# Altium footprint library PcbLib_Others.PcbLib: 31 footprints (part 1 of 2)
Each footprint in its own frame and in the unit in brackets; x right, y up, seen from the top. Pads: shape width x height; smd on the part's side, far side on the other; paste and mask are expansions set on the pad; w line width, h text height; cw(c..) or ccw(c..) is an arc to the next point about the centre after c.
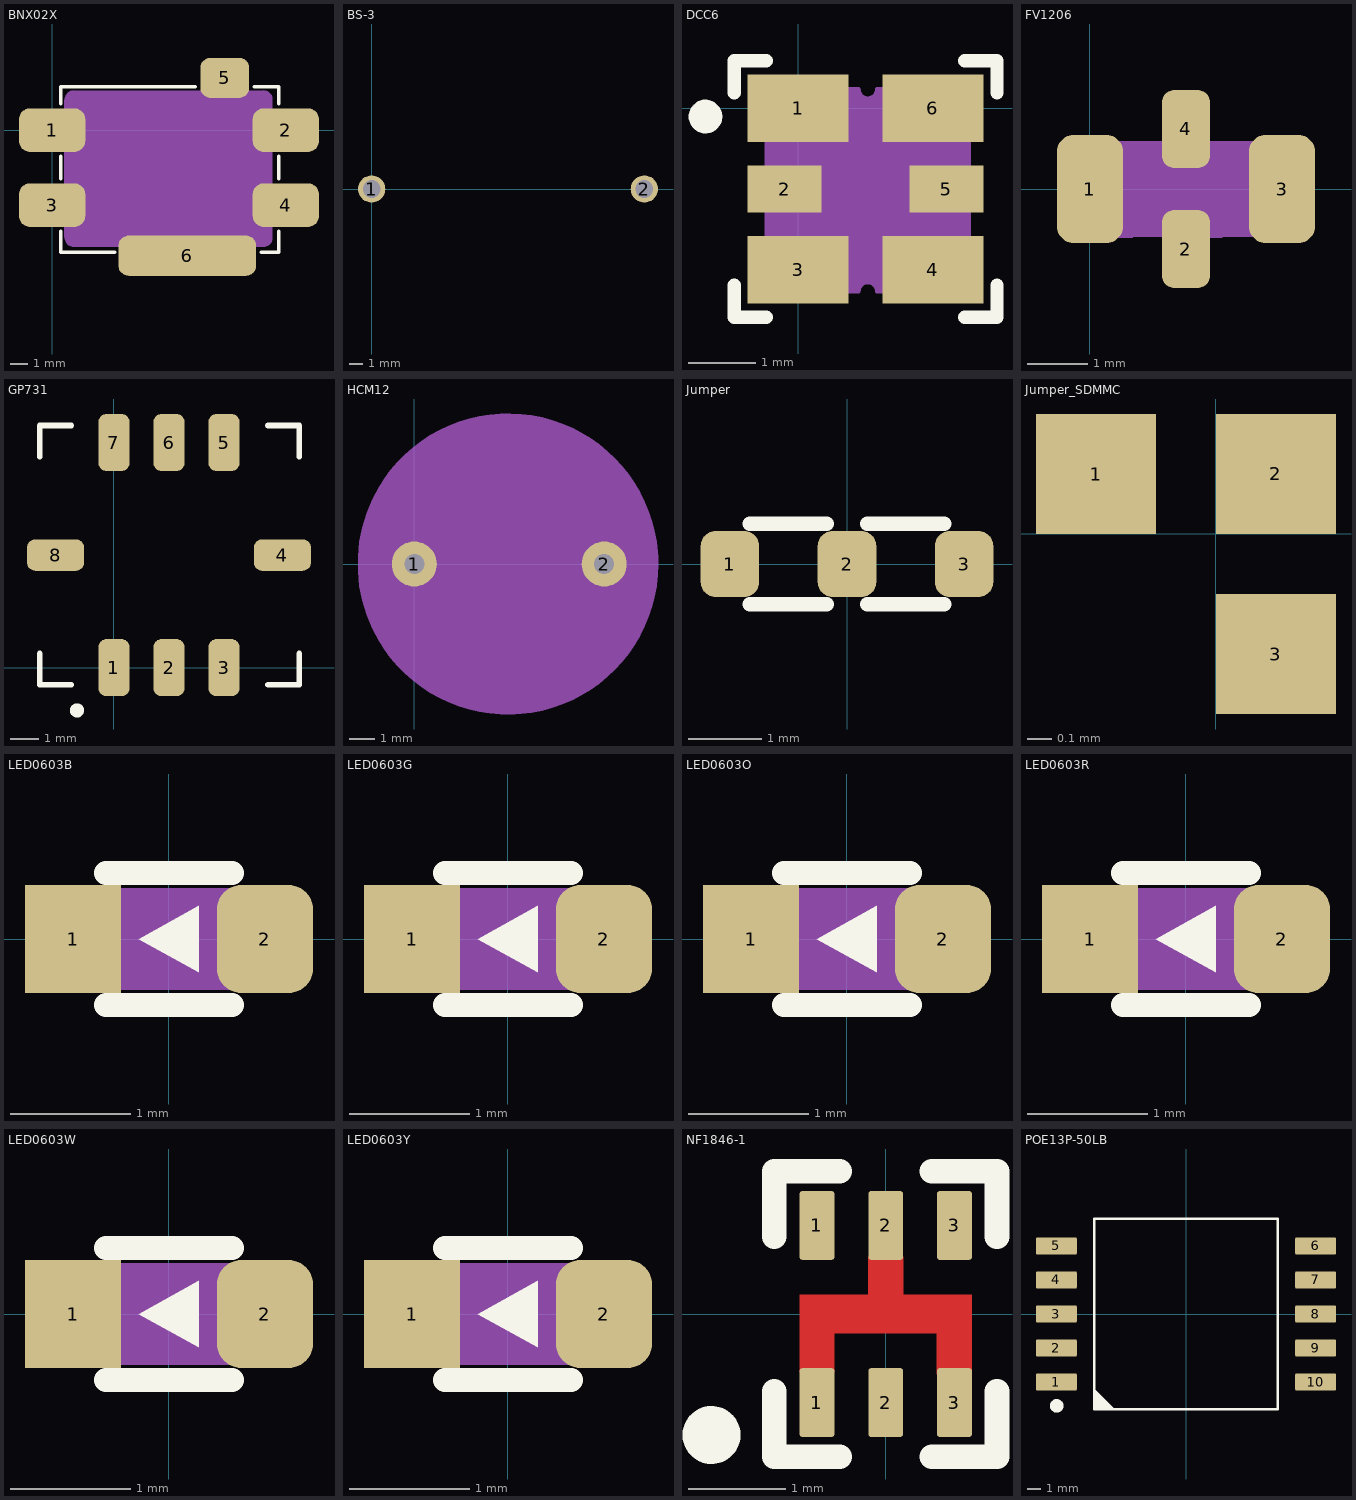
[diagram p0: the footprints below, top view; thin cyan lines are the x and y axes]

## BNX02X [mm]
pads (6):
  rrect50% 3.8x2.5 smd: 1(0,0) 2(13.4,0) 3(0,-4.3) 4(13.4,-4.3)
  rrect50% 2.8x2.3 smd: 5(9.9,3)
  rrect50% 7.9x2.3 smd: 6(7.75,-7.2)
Top Overlay:
  lines w0.2: 0.5,-5.8 0.5,-7 3.6,-7 ; 0.5,-2.8 0.5,-1.5 ; 0.5,1.5 0.5,2.5 8.2,2.5 ; 11.6,2.5 13,2.5 13,1.5 ; 12,-7 13,-7 13,-5.8 ; 13,-2.8 13,-1.5
Mechanical 3:
  drawing of 310 lines, arcs and shapes, not listed
Mechanical 4:
  rectangle: 0.632,-4.954 0.732,-3.654
  rectangle: 0.632,-0.754 0.732,0.546
  rectangle: 8.682,2.246 11.182,2.346
  rectangle: 12.632,-0.754 12.732,0.546
  rectangle: 12.632,-4.954 12.732,-3.654
  rectangle: 4.182,-6.754 11.182,-6.654
  region: 0.732,-6.154 0.732,1.746 0.732,1.845 0.808,2.029 0.949,2.17 1.132,2.246 1.232,2.246 12.132,2.246 12.231,2.246 12.415,2.17 12.556,2.029 12.632,1.845 12.632,1.746 12.632,-6.154 12.632,-6.253 12.556,-6.437 12.415,-6.578 12.231,-6.654 12.132,-6.654 1.232,-6.654 1.132,-6.654 0.949,-6.578 0.808,-6.437 0.732,-6.253
3D body "BNX02X.STEP": height 3.1, standoff 0, extent 0.65,-6.75 12.75,2.35

## BS-3 [mm]
pads (2):
  round 2 hole 1.3: 1(0,0) 2(20,0)
3D body "CR 2032.STEP": height 7.06, standoff -3.49, extent -3.325,-11.375 25.375,11.375

## DCC6 [mm]
height 1.15
pads (6):
  rect 1.5x1 smd: 1(0,0) 3(0,-2.4) 4(2,-2.4) 6(2,0)
  rect 1.1x0.7 smd: 2(-0.2,-1.2) 5(2.2,-1.2)
Top Overlay:
  circle w0.25: c-1.375,-0.125 r0.125
  lines w0.2: -0.95,-2.625 -0.95,-3.1 -0.475,-3.1 ; -0.95,0.225 -0.95,0.7 -0.475,0.7 ; 2.475,-3.1 2.95,-3.1 2.95,-2.625 ; 2.475,0.7 2.95,0.7 2.95,0.225
Mechanical 3:
  lines w0.06: -0.466,-2.583 cw(c-0.466,-2.719) -0.33,-2.719 0.898,-2.719 cw(c1.034,-2.719) 1.17,-2.719 2.398,-2.719 cw(c2.534,-2.719) 2.534,-2.583 2.534,-1.356 cw(c2.534,-1.219) 2.534,-1.083 2.534,0.144 cw(c2.534,0.281) 2.398,0.281 1.17,0.281 cw(c1.034,0.281) 0.898,0.281 -0.33,0.281 cw(c-0.466,0.281) -0.466,0.144 -0.466,-1.083 cw(c-0.466,-1.219) -0.466,-1.356 -0.466,-2.583 ; -0.002,-2.013 ccw(c0.298,-2.013) 0.298,-2.313 1.768,-2.313 ccw(c1.768,-2.013) 2.068,-2.013 2.068,-0.563 ccw(c1.768,-0.563) 1.768,-0.263 0.298,-0.263 ccw(c0.298,-0.563) -0.002,-0.563 -0.002,-2.013 ; 0.217,-1.852 ccw(c0.457,-1.852) 0.457,-2.092 1.632,-2.092 ccw(c1.632,-1.852) 1.872,-1.852 1.872,-0.691 ccw(c1.632,-0.691) 1.632,-0.451 0.457,-0.451 ccw(c0.457,-0.691) 0.217,-0.691 0.217,-1.852
Mechanical 4:
  region: -0.45,-2.575 -0.45,-1.375 -0.425,-1.375 -0.35,-1.3 -0.35,-1.175 -0.425,-1.1 -0.475,-1.1 -0.475,0.15 -0.4,0.15 -0.4,0.175 -0.325,0.25 -0.325,0.275 0.9,0.275 0.925,0.25 0.925,0.2 0.975,0.15 1.1,0.15 1.175,0.225 1.175,0.275 2.4,0.275 2.425,0.25 2.425,0.2 2.475,0.15 2.525,0.15 2.525,-1.075 2.5,-1.1 2.45,-1.1 2.45,-1.125 2.4,-1.175 2.4,-1.275 2.475,-1.35 2.525,-1.35 2.525,-2.575 2.5,-2.6 2.475,-2.6 2.4,-2.675 2.4,-2.725 1.175,-2.725 1.15,-2.7 1.15,-2.65 1.1,-2.6 0.95,-2.6 0.95,-2.625 0.9,-2.675 0.9,-2.725 -0.3,-2.725
3D body "DCC6.STEP": height 1.16, standoff -0.01, extent -0.485,-2.7 2.535,0.3

## FV1206 [mm]
height 0.95
pads (4):
  rrect50% 1.1x1.8 smd: 1(0,0) 3(3.2,0)
  rrect50% 0.8x1.3 smd: 2(1.6,-1) 4(1.6,1)
Mechanical 3:
  lines w0.013: 0.603,-0.79 0.604,-0.79 1.4,-0.79 ; 0.603,0.79 0.604,0.79 1.4,0.79 ; 0.64,-0.79 0.64,-0.8 ; 0.64,0.79 0.64,0.8 ; 0.68,-0.79 0.68,-0.8 ; 0.68,0.79 0.68,0.8 ; 0.7,-0.79 0.7,-0.8 ; 0.7,0.79 0.7,0.8 ; 0.71,-0.79 0.71,-0.8 0.7,-0.8 ; 0.71,0.79 0.71,0.8 0.7,0.8 ; 2.2,-0.79 2.996,-0.79 2.997,-0.79 ; 2.2,0.79 2.996,0.79 2.997,0.79 ; 2.89,-0.79 2.89,-0.8 2.9,-0.8 ; 2.89,0.79 2.89,0.8 2.9,0.8 ; 2.9,-0.79 2.9,-0.8 ; 2.9,0.79 2.9,0.8 ; 2.92,-0.79 2.92,-0.8 ; 2.92,0.79 2.92,0.8 ; 2.96,-0.79 2.96,-0.8 ; 2.96,0.79 2.96,0.8 ; 0.6,-0.8 0.64,-0.8 ; 0.6,-0.8 0.2,-0.8 0.2,0.8 0.6,0.8 ; 0.6,-0.8 0.63,-0.7 0.66,-0.57 0.68,-0.42 0.7,-0.19 0.705,-0.095 0.71,0 0.705,0.095 0.7,0.19 0.68,0.42 0.66,0.57 0.63,0.7 0.6,0.8 ; 0.6,0.8 0.64,0.8 ; 0.64,-0.8 0.68,-0.8 ; 0.64,0.8 0.68,0.8 ; 0.68,-0.8 0.7,-0.8 ; 0.68,0.8 0.7,0.8 ; 2.9,-0.8 2.92,-0.8 ; 2.9,0.8 2.92,0.8 ; 2.92,-0.8 2.96,-0.8 ; 2.92,0.8 2.96,0.8 ; 2.96,-0.8 3,-0.8 ; 2.96,0.8 3,0.8 ; 3,-0.8 3.4,-0.8 3.4,0.8 3,0.8 ; 3,-0.8 2.97,-0.7 2.94,-0.57 2.93,-0.495 2.92,-0.42 2.9,-0.19 2.895,-0.095 2.89,0 2.895,0.095 2.9,0.19 2.92,0.42 2.94,0.57 2.97,0.7 3,0.8 ; 1.4,-0.8 2.2,-0.8 2.2,-0.61 2.13,-0.59 2.06,-0.58 1.91,-0.57 1.69,-0.57 1.54,-0.58 1.47,-0.59 1.4,-0.61 1.4,-0.8 ; 1.4,0.61 1.47,0.59 1.54,0.58 1.69,0.57 1.91,0.57 2.06,0.58 2.13,0.59 2.2,0.61 2.2,0.8 1.4,0.8 1.4,0.61
Mechanical 4:
  rectangle: 0.2,-0.8 3.4,0.8
3D body "FV1206.STEP": height 0.94, standoff 0, extent 0,-0.8 3.2,0.8

## GP731 [mm]
pads (8):
  rrect50% 1.1x2 smd: 1(0,0) 2(1.93,0) 3(3.86,0) 5(3.86,7.9) 6(1.93,7.9) 7(0,7.9)
  rrect50% 2x1.1 smd: 4(5.91,3.95) 8(-2.05,3.95)
Top Overlay:
  circle w0.25: c-1.3,-1.5 r0.125
  lines w0.2: -2.6,0.5 -2.6,-0.6 -1.5,-0.6 ; -2.6,7.4 -2.6,8.5 -1.5,8.5 ; 5.4,-0.6 6.5,-0.6 6.5,0.5 ; 5.4,8.5 6.5,8.5 6.5,7.4
3D body "GP731.STEP": height 2.54, standoff 0, extent -2.505,-0.495 6.405,8.425

## HCM12 [mm]
pads (2):
  round 1.8 hole 0.8: 1(0,0) 2(7.6,0)
Mechanical 3:
  circle w0.013: c3.75,0 r0.9
  circle w0.013: c3.75,0 r6
  text ".Designator" at 1.75,2 h1.5
Mechanical 4:
  region: -2.25,0 -2.25,-0.295 -2.192,-0.881 -2.077,-1.46 -1.906,-2.024 -1.68,-2.568 -1.403,-3.088 -1.075,-3.579 -0.701,-4.034 -0.284,-4.451 0.171,-4.825 0.662,-5.153 1.182,-5.43 1.726,-5.656 2.29,-5.827 2.869,-5.942 3.455,-6 3.75,-6 4.045,-6 4.631,-5.942 5.21,-5.827 5.774,-5.656 6.318,-5.43 6.838,-5.153 7.329,-4.825 7.784,-4.451 8.201,-4.034 8.575,-3.579 8.903,-3.088 9.18,-2.568 9.406,-2.024 9.577,-1.46 9.692,-0.881 9.75,-0.295 9.75,0 9.75,0.295 9.692,0.881 9.577,1.46 9.406,2.024 9.18,2.568 8.903,3.088 8.575,3.579 8.201,4.034 7.784,4.451 7.329,4.825 6.838,5.153 6.318,5.43 5.774,5.656 5.21,5.827 4.631,5.942 4.045,6 3.75,6 3.455,6 2.869,5.942 2.29,5.827 1.726,5.656 1.182,5.43 0.662,5.153 0.171,4.825 -0.284,4.451 -0.701,4.034 -1.075,3.579 -1.403,3.088 -1.68,2.568 -1.906,2.024 -2.077,1.46 -2.192,0.881 -2.25,0.295
3D body "HCM1206X.STEP": height 9.51, standoff -6.49, extent -2.2,-6 9.8,6

## Jumper [mm]
height 0.6
pads (3):
  rrect50% 0.8x0.9 smd: 1(-1.6,0) 2(0,0) 3(1.6,0)
Top Overlay:
  lines w0.2: -1.325,-0.55 -0.275,-0.55 ; -1.325,0.55 -0.275,0.55 ; 0.275,-0.55 1.325,-0.55 ; 0.275,0.55 1.325,0.55

## Jumper_SDMMC [mm]
height 0.6
pads (3):
  rect 0.5x0.5 smd mask+0.05: 1(-0.5,0.25) 2(0.25,0.25) 3(0.25,-0.5)

## LED0603B [mm] "LED 0603 Blue"
height 0.6
pads (2):
  rect 0.8x0.9 smd: 1(-0.8,0)
  rrect50% 0.8x0.9 smd: 2(0.8,0)
Top Overlay:
  region: -0.25,0 0.25,0.275 0.25,-0.275
  lines w0.2: -0.525,-0.55 0.525,-0.55 ; -0.525,0.55 0.525,0.55
Mechanical 3:
  lines w0.05: -0.8,-0.4 -0.8,0.4 0.8,0.4 0.8,-0.4 -0.8,-0.4
  text ".Designator" at -0.7,-0.3 h0.8
Mechanical 4:
  rectangle: -0.775,-0.375 0.775,0.375
3D body "User Library-LED_0603_B.STEP": height 0.6, standoff 0, extent -0.8,-0.4 0.8,0.4

## LED0603G [mm] "LED 0603 Green"
height 0.6
pads (2):
  rect 0.8x0.9 smd: 1(-0.8,0)
  rrect50% 0.8x0.9 smd: 2(0.8,0)
Top Overlay:
  region: -0.25,0 0.25,0.275 0.25,-0.275
  lines w0.2: -0.525,-0.55 0.525,-0.55 ; -0.525,0.55 0.525,0.55
Mechanical 3:
  lines w0.05: -0.8,-0.4 -0.8,0.4 0.8,0.4 0.8,-0.4 -0.8,-0.4
  text ".Designator" at -0.7,-0.3 h0.8
Mechanical 4:
  rectangle: -0.775,-0.375 0.775,0.375
3D body "User Library-LED_0603_G.STEP": height 0.6, standoff 0, extent -0.8,-0.4 0.8,0.4

## LED0603O [mm] "LED 0603 Orange"
height 0.6
pads (2):
  rect 0.8x0.9 smd: 1(-0.8,0)
  rrect50% 0.8x0.9 smd: 2(0.8,0)
Top Overlay:
  region: -0.25,0 0.25,0.275 0.25,-0.275
  lines w0.2: -0.525,-0.55 0.525,-0.55 ; -0.525,0.55 0.525,0.55
Mechanical 3:
  lines w0.05: -0.8,-0.4 0.8,-0.4 0.8,0.4 -0.8,0.4 -0.8,-0.4
  text ".Designator" at -0.7,-0.3 h0.8
Mechanical 4:
  rectangle: -0.775,-0.375 0.775,0.375
3D body "User Library-LED_0603_B.STEP": height 0.6, standoff 0, extent -0.8,-0.4 0.8,0.4

## LED0603R [mm] "LED 0603 Red"
height 0.6
pads (2):
  rect 0.8x0.9 smd: 1(-0.8,0)
  rrect50% 0.8x0.9 smd: 2(0.8,0)
Top Overlay:
  region: -0.25,0 0.25,0.275 0.25,-0.275
  lines w0.2: -0.525,-0.55 0.525,-0.55 ; -0.525,0.55 0.525,0.55
Mechanical 3:
  lines w0.05: -0.8,-0.4 0.8,-0.4 0.8,0.4 -0.8,0.4 -0.8,-0.4
  text ".Designator" at -0.7,-0.3 h0.8
Mechanical 4:
  rectangle: -0.775,-0.375 0.775,0.375
3D body "User Library-LED_0603_R.STEP": height 0.6, standoff 0, extent -0.8,-0.4 0.8,0.4

## LED0603W [mm] "LED 0603 White"
height 0.6
pads (2):
  rect 0.8x0.9 smd: 1(-0.8,0)
  rrect50% 0.8x0.9 smd: 2(0.8,0)
Top Overlay:
  region: -0.25,0 0.25,0.275 0.25,-0.275
  lines w0.2: -0.525,-0.55 0.525,-0.55 ; -0.525,0.55 0.525,0.55
Mechanical 3:
  lines w0.05: -0.8,-0.4 0.8,-0.4 0.8,0.4 -0.8,0.4 -0.8,-0.4
  text ".Designator" at -0.7,-0.3 h0.8
Mechanical 4:
  rectangle: -0.775,-0.375 0.775,0.375
3D body "User Library-LED_0603_WS.STEP": height 0.6, standoff 0, extent -0.8,-0.4 0.8,0.4

## LED0603Y [mm] "LED 0603 Yellow"
height 0.6
pads (2):
  rect 0.8x0.9 smd: 1(-0.8,0)
  rrect50% 0.8x0.9 smd: 2(0.8,0)
Top Overlay:
  region: -0.25,0 0.25,0.275 0.25,-0.275
  lines w0.2: -0.525,-0.55 0.525,-0.55 ; -0.525,0.55 0.525,0.55
Mechanical 3:
  lines w0.05: -0.8,-0.4 -0.8,0.4 0.8,0.4 0.8,-0.4 -0.8,-0.4
  text ".Designator" at -0.7,-0.3 h0.8
Mechanical 4:
  rectangle: -0.775,-0.375 0.775,0.375
3D body "User Library-LED_0603_Y.STEP": height 0.6, standoff 0, extent -0.8,-0.4 0.8,0.4

## NF1846-1 [mm] "Minicircuits NF1846-1 case style"
pads (6):
  rrect15% 0.36x0.71 smd: 1(-0.71,-0.915) 1(-0.71,0.915) 2(0,-0.915) 2(0,0.915) 3(0.71,-0.915) 3(0.71,0.915)
Top Layer:
  region: -0.89,0.2 -0.89,-0.6 -0.53,-0.6 -0.53,-0.2 0.53,-0.2 0.53,-0.625 0.89,-0.625 0.89,-0.2 0.89,0.2 0.18,0.2 0.18,0.59 -0.18,0.59 -0.18,0.2
Top Overlay:
  circle w0.3: c-1.8,-1.25 r0.15
  lines w0.254: -1.15,-0.8 -1.15,-1.475 -0.475,-1.475 ; -1.15,0.8 -1.15,1.475 -0.475,1.475 ; 0.475,-1.475 1.15,-1.475 1.15,-0.8 ; 0.475,1.475 1.15,1.475 1.15,0.8
Top Paste:
  region: -0.9,0.2 -0.9,-0.6 -0.525,-0.6 -0.525,-0.2 0.525,-0.2 0.525,-0.625 0.9,-0.625 0.9,-0.2 0.9,0.2 0.175,0.2 0.175,0.575 -0.175,0.575 -0.175,0.2
Top Solder:
  region: -0.99,0.25 -0.99,-0.2 -0.99,-0.6 -0.425,-0.6 -0.425,-0.25 0.428,-0.25 0.428,-0.625 0.99,-0.625 0.99,-0.175 0.99,0.25 0.28,0.25 0.28,0.575 -0.28,0.575 -0.28,0.25
3D body "NF1846-1.STEP": height 0.9, standoff -0.01, extent -1,-1.27 1,1.27

## POE13P-50LB [mm]
pads (10):
  rrect15% 3x1.27 smd: 1(-9.525,-5) 2(-9.525,-2.5) 3(-9.525,0) 4(-9.525,2.5) 5(-9.525,5) 6(9.525,5) 7(9.525,2.5) 8(9.525,0) 9(9.525,-2.5) 10(9.525,-5)
Top Overlay:
  circle w0.5: c-9.5,-6.75 r0.25
  region: -6.75,-5.5 -5.25,-7 -6.75,-7
  lines w0.2: -6.75,-7 -6.75,7 6.75,7 6.75,-7 -6.75,-7
3D body "Coilcraft-POE13P-50L.step": height 12.6, standoff -0.1, extent -8.875,-6.73 8.875,6.73